# EAGLE library part MC8266 (library dec-con)
Quad 2-1 selector
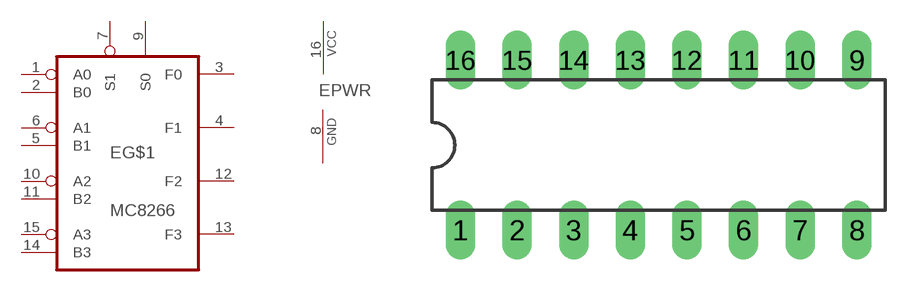
[diagram p29: symbol with the pads of DIL16; footprint DIL16]

Designator prefix E; gates G$1=8266 PWR=PWRN

## MC8266  [DIL16]
1  G$1:A0  in
2  G$1:B0  in
3  G$1:F0  out
4  G$1:F1  out
5  G$1:B1  in
6  G$1:A1  in
7  G$1:S1  in
8  PWR:GND  pwr
9  G$1:S0  in
10  G$1:A2  in
11  G$1:B2  in
12  G$1:F2  out
13  G$1:F3  out
14  G$1:B3  in
15  G$1:A3  in
16  PWR:VCC  pwr

## Footprint DIL16 (pad centres in mm)
Dual In Line Package
drill 0.813 long: 1 -8.89,-3.81; 2 -6.35,-3.81; 3 -3.81,-3.81; 4 -1.27,-3.81; 5 1.27,-3.81; 6 3.81,-3.81; 7 6.35,-3.81; 8 8.89,-3.81; 9 8.89,3.81; 10 6.35,3.81; 11 3.81,3.81; 12 1.27,3.81; 13 -1.27,3.81; 14 -3.81,3.81; 15 -6.35,3.81; 16 -8.89,3.81